# EAGLE library part 10X03 (library magzor-connectors)
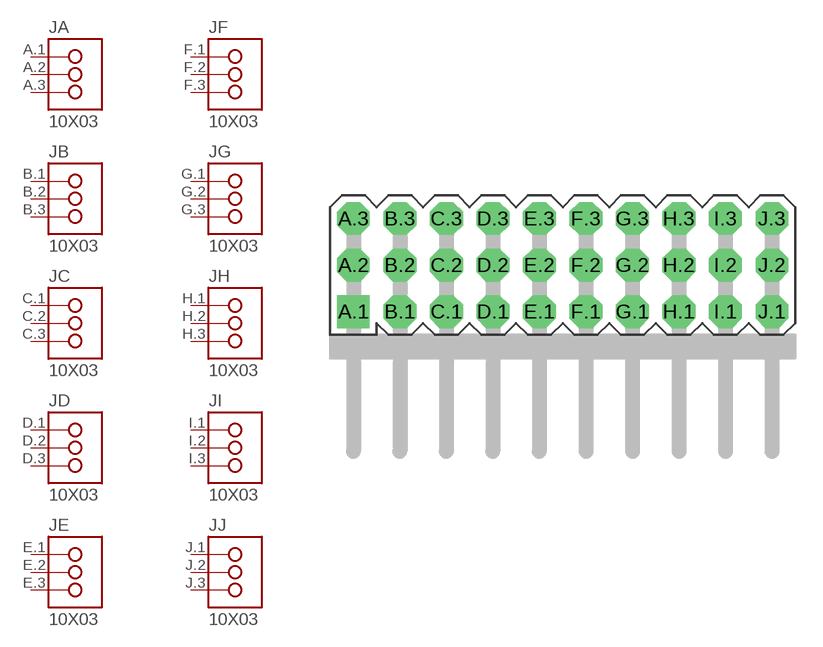
[diagram p12: symbol with the pads of P0.1IN-10X03-RA; footprint P0.1IN-10X03-RA]

Designator prefix J; gates A=1X03 B=1X03 C=1X03 D=1X03 E=1X03 F=1X03 G=1X03 H=1X03 I=1X03 J=1X03

## 10X03-0.1IN-RA  [P0.1IN-10X03-RA]
A.1  A:1
A.2  A:2
A.3  A:3
B.1  B:1
B.2  B:2
B.3  B:3
C.1  C:1
C.2  C:2
C.3  C:3
D.1  D:1
D.2  D:2
D.3  D:3
E.1  E:1
E.2  E:2
E.3  E:3
F.1  F:1
F.2  F:2
F.3  F:3
G.1  G:1
G.2  G:2
G.3  G:3
H.1  H:1
H.2  H:2
H.3  H:3
I.1  I:1
I.2  I:2
I.3  I:3
J.1  J:1
J.2  J:2
J.3  J:3

## Footprint P0.1IN-10X03-RA (pad centres in mm)
drill 0.965 pad 1.778 square: A.1 -10.16,-2.54
drill 0.965 pad 1.778 octagon: A.2 -10.16,0; A.3 -10.16,2.54; B.1 -7.62,-2.54; B.2 -7.62,0; B.3 -7.62,2.54; C.1 -5.08,-2.54; C.2 -5.08,0; C.3 -5.08,2.54; D.1 -2.54,-2.54; D.2 -2.54,0; D.3 -2.54,2.54; E.1 0,-2.54; E.2 0,0; E.3 0,2.54; F.1 2.54,-2.54; F.2 2.54,0; F.3 2.54,2.54; G.1 5.08,-2.54; G.2 5.08,0; G.3 5.08,2.54; H.1 7.62,-2.54; H.2 7.62,0; H.3 7.62,2.54; I.1 10.16,-2.54; I.2 10.16,0; I.3 10.16,2.54; J.1 12.7,-2.54; J.2 12.7,0; J.3 12.7,2.54